# EAGLE library part STF202-22T1G (library Controller)
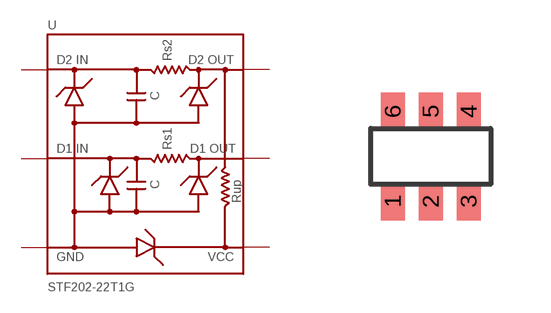
[diagram p27: symbol with the pads of STF202-22T1G; footprint STF202-22T1G]

Designator prefix U

## STF202-22T1G  [STF202-22T1G]
1  VCC
2  D1-IN
3  D2-IN
4  D2-OUT
5  D1-OUT
6  GND

## Footprint STF202-22T1G (pad centres in mm)
smd 0.6 x 0.95: 1 -0.95,-1.125; 2 0,-1.125; 3 0.95,-1.125; 4 0.95,1.125; 5 0,1.125; 6 -0.95,1.125